# EAGLE library part LT8336 (library DSDEagleLibrary)
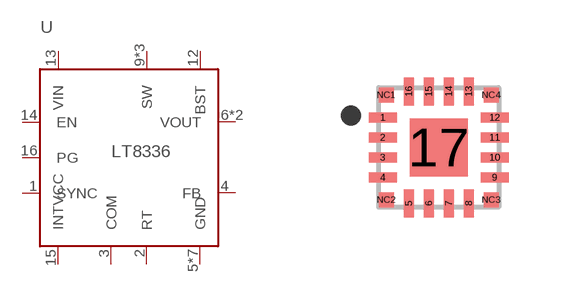
[diagram p67: symbol with the pads of LQFN-16; footprint LQFN-16]

Designator prefix -

## LT8336  [LQFN-16]
1  SYNC
2  RT
3  COM
4  FB
5  GND
6  VOUT
7  VOUT
8  GND
9  SW
10  SW
11  SW
12  BST
13  VIN
14  EN
15  INTVCC
16  PG
17  GND
NC1  GND
NC2  GND
NC3  GND
NC4  GND

## Footprint LQFN-16 (pad centres in mm)
smd 0.7 x 0.25: 1 -1.4,0.75; 2 -1.4,0.25; 3 -1.4,-0.25; 4 -1.4,-0.75; 9 1.4,-0.75; 10 1.4,-0.25; 11 1.4,0.25; 12 1.4,0.75
smd 0.25 x 0.7: 5 -0.75,-1.4; 6 -0.25,-1.4; 7 0.25,-1.4; 8 0.75,-1.4; 13 0.75,1.4; 14 0.25,1.4; 15 -0.25,1.4; 16 -0.75,1.4
smd 1.45 x 1.45: 17 0,0
smd 0.375 x 0.375: NC1 -1.312,1.312; NC2 -1.312,-1.312; NC3 1.312,-1.312; NC4 1.312,1.312